# EAGLE library part SWITCHER (library linear-technology-2)
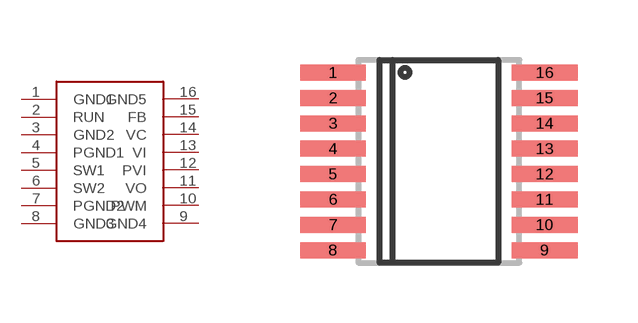
[diagram p51: symbol with the pads of SSOP16; footprint SSOP16]

Designator prefix -

## SWITCHER  [SSOP16]
1  GND1
2  RUN
3  GND2
4  PGND1
5  SW1
6  SW2
7  PGND2
8  GND3
9  GND4
10  PWM
11  VO
12  PVI
13  VI
14  VC
15  FB
16  GND5

## Footprint SSOP16 (pad centres in mm)
smd 1.65 x 0.4: 1 -2.646,2.223; 2 -2.646,1.587; 3 -2.646,0.953; 4 -2.646,0.318; 5 -2.646,-0.318; 6 -2.646,-0.953; 7 -2.646,-1.587; 8 -2.646,-2.223; 9 2.646,-2.223; 10 2.646,-1.587; 11 2.646,-0.953; 12 2.646,-0.318; 13 2.646,0.318; 14 2.646,0.953; 15 2.646,1.587; 16 2.646,2.223